# EAGLE library part STM32L432KC (library CYCFI_semicon)
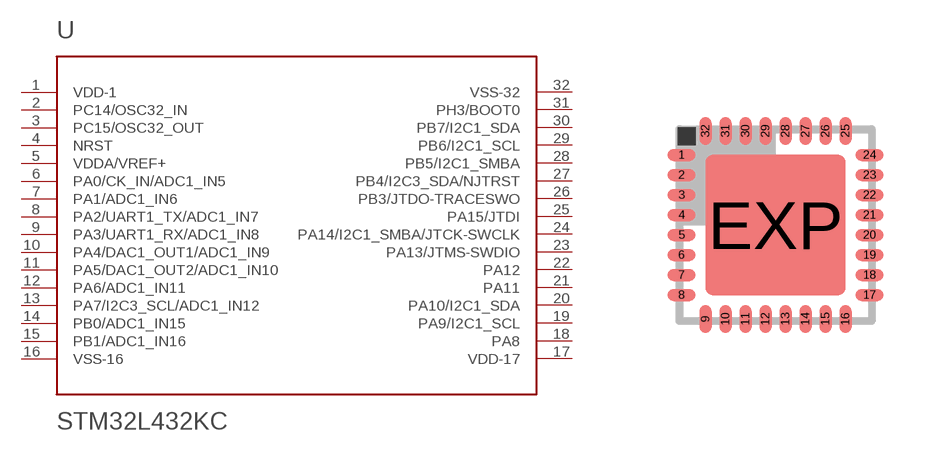
[diagram p4: symbol with the pads of UFQFPN; footprint UFQFPN]

Designator prefix -

## STM32L432KC  [UFQFPN]
1  VDD-1
2  PC14/OSC32_IN
3  PC15/OSC32_OUT
4  NRST
5  VDDA/VREF+
6  PA0/CK_IN/ADC1_IN5
7  PA1/ADC1_IN6
8  PA2/UART1_TX/ADC1_IN7
9  PA3/UART1_RX/ADC1_IN8
10  PA4/DAC1_OUT1/ADC1_IN9
11  PA5/DAC1_OUT2/ADC1_IN10
12  PA6/ADC1_IN11
13  PA7/I2C3_SCL/ADC1_IN12
14  PB0/ADC1_IN15
15  PB1/ADC1_IN16
16  VSS-16
17  VDD-17
18  PA8
19  PA9/I2C1_SCL
20  PA10/I2C1_SDA
21  PA11
22  PA12
23  PA13/JTMS-SWDIO
24  PA14/I2C1_SMBA/JTCK-SWCLK
25  PA15/JTDI
26  PB3/JTDO-TRACESWO
27  PB4/I2C3_SDA/NJTRST
28  PB5/I2C1_SMBA
29  PB6/I2C1_SCL
30  PB7/I2C1_SDA
31  PH3/BOOT0
32  VSS-32

## Footprint UFQFPN (pad centres in mm)
smd 0.7 x 0.3: 1 -2.35,1.75; 2 -2.35,1.25; 3 -2.35,0.75; 4 -2.35,0.25; 5 -2.35,-0.25; 6 -2.35,-0.75; 7 -2.35,-1.25; 8 -2.35,-1.75; 17 2.35,-1.75; 18 2.35,-1.25; 19 2.35,-0.75; 20 2.35,-0.25; 21 2.35,0.25; 22 2.35,0.75; 23 2.35,1.25; 24 2.35,1.75
smd 0.3 x 0.7: 9 -1.75,-2.35; 10 -1.25,-2.35; 11 -0.75,-2.35; 12 -0.25,-2.35; 13 0.25,-2.35; 14 0.75,-2.35; 15 1.25,-2.35; 16 1.75,-2.35; 25 1.75,2.35; 26 1.25,2.35; 27 0.75,2.35; 28 0.25,2.35; 29 -0.25,2.35; 30 -0.75,2.35; 31 -1.25,2.35; 32 -1.75,2.35
smd 3.5 x 3.5: EXP 0,0